# Altium schematic symbol library MFE Sch Library.SchLib: 56 symbols
Pins are listed as number, name and electrical type; pins without a type are passive.

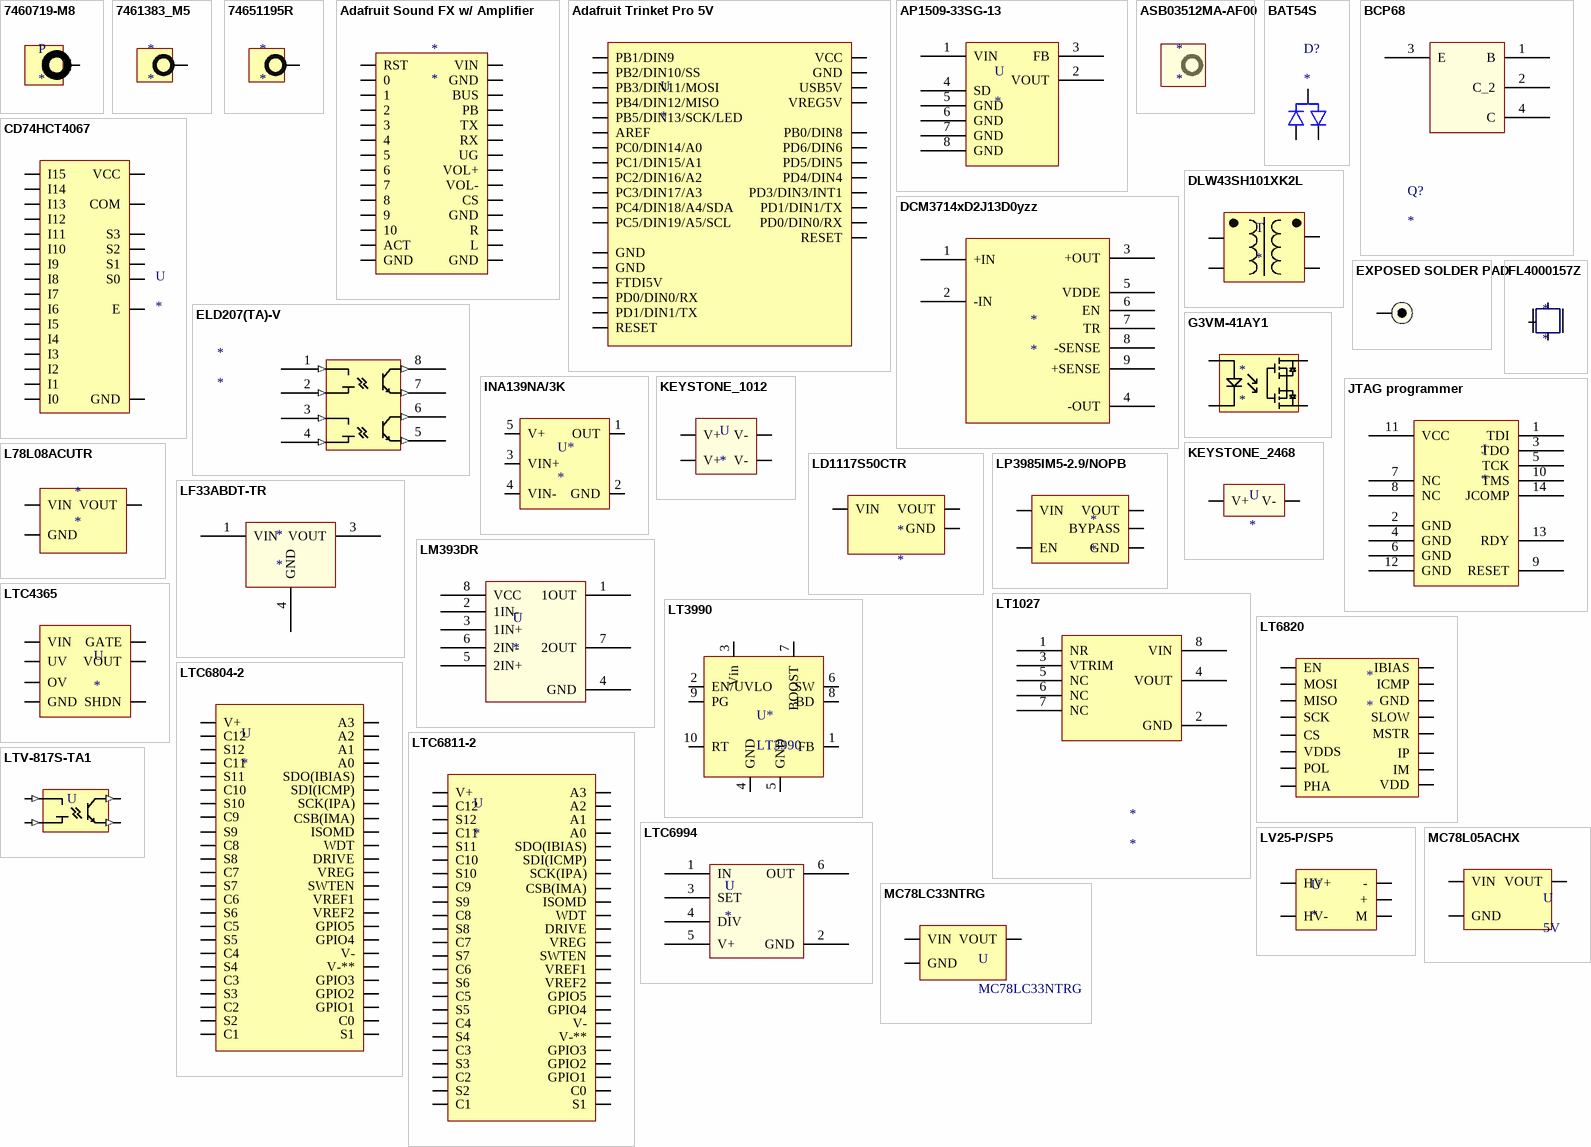
[diagram p0: symbols 7460719-M8 to MC78LC33NTRG]

## 7460719-M8
designator P
screw terminal
pins: 1

## 7461383_M5
designator *
pins: 1 TERMINAL

## 74651195R
designator *
screw terminal
pins: 1 TERMINAL

## Adafruit Sound FX w/ Amplifier
designator *
sound board controlled via UART, 16MB storage
pins: 1 RST, 2 0, 3 1, 4 2, 5 3, 6 4, 7 5, 8 6, 9 7, 10 8, 11 9, 12 10, 13 ACT, 14 GND, 15 GND, 16 L, 17 R, 18 GND, 19 CS, 20 VOL-, 21 VOL+, 22 UG, 23 RX, 24 TX, 25 PB, 26 BUS, 27 GND, 28 VIN

## Adafruit Trinket Pro 5V
designator U
ATMega based microcontroller, smaller Arduino
pins: 1 PB1/DIN9, 2 PB2/DIN10/SS, 3 PB3/DIN11/MOSI, 4 PB4/DIN12/MISO, 5 PB5/DIN13/SCK/LED, 6 AREF, 7 PC0/DIN14/A0, 8 PC1/DIN15/A1, 9 PC2/DIN16/A2, 10 PC3/DIN17/A3, 11 PC4/DIN18/A4/SDA, 12 PC5/DIN19/A5/SCL, 13 GND, 14 GND, 15 FTDI5V, 16 PD0/DIN0/RX, 17 PD1/DIN1/TX, 18 RESET, 19 RESET, 20 PD0/DIN0/RX, 21 PD1/DIN1/TX, 22 PD3/DIN3/INT1, 23 PD4/DIN4, 24 PD5/DIN5, 25 PD6/DIN6, 26 PB0/DIN8, 27 VREG5V, 28 USB5V, 29 GND, 30 VCC

## AP1509-33SG-13
designator U
Fixed 3v3 switching regulator 8SOIC
footprint SOIC127P600-8N (SOIC, 8-Leads, Body 4.9x3.9mm, Pitch 1.27mm, IPC Medium Density)
footprint SOIC127P600-8N (SOIC, 8-Leads, Body 4.9x3.9mm, Pitch 1.27mm, IPC Medium Density)
pins: 1 VIN, 2 VOUT, 3 FB, 4 SD, 5 GND, 6 GND, 7 GND, 8 GND

## ASB03512MA-AF00
designator *
footprint ASB03512MA (12V DCDC Fan)

## BAT54S
designator D?
MCU clamping diodes
footprint SOT95P250-3L (SOT23, 3-Leads, Body 2.9x1.3mm, Pitch 0.95mm, Lead Span 2.3mm, IPC High Density)
pins: 1, 2, 3

## BCP68
designator Q?
1V0 source for MPC5643L
footprint SOT223-4L (SOT223, 4-Leads, Body 6.5x3.5mm, Pitch 2.3mm, Lead Span 7mm, IPC High Density)
pins: 1 B, 2 C_2, 3 E, 4 C

## CD74HCT4067
designator U
16 input mux
pins: 1 COM, 2 I7, 3 I6, 4 I5, 5 I4, 6 I3, 7 I2, 8 I1, 9 I0, 10 S0, 11 S1, 12 GND, 13 S2, 14 S3, 15 E, 16 I15, 17 I14, 18 I13, 19 I12, 20 I11, 21 I10, 22 I9, 23 I8, 24 VCC

## DCM3714xD2J13D0yzz
designator *
300V-12V DCDC 320W
pins: 1 +IN, 2 -IN, 3 +OUT, 4 -OUT, 5 VDDE, 6 EN, 7 TR, 8 -SENSE, 9 +SENSE

## DLW43SH101XK2L
designator T
100uH CMC
pins: 1, 2, 3, 4

## ELD207(TA)-V
designator *
2 channel optoisolator, 10mA 100% CTR
footprint SOIC127P600-8CN (SOIC, 8-Leads, Body 4.9x3.9mm, Pitch 1.27mm, IPC Medium Density)
pins: 1 OPTO1_IN (in), 2 OPTO1_OUT (in), 3 OPTO2_IN (in), 4 OPTO2_OUT (in), 5 OPTO2_E (out), 6 OPTO2_C (out), 7 OPTO1_E (out), 8 OPTO1_C (out)

## EXPOSED SOLDER PAD
designator *  (value not drawn)
testing point
footprint TEST PAD
pins: 1 PAD

## FL4000157Z
designator *
40MHz crystal
pins: 1 XTAL, 2 GND, 3 XTAL

## G3VM-41AY1
designator *
pins: 1, 2, 3, 4

## INA139NA/3K
designator U*
current monitor, used with 0.01 ohm shunt resistor
footprint SOT23-5N (SOT23, 5-Leads, Body 2.90x2.80mm, Pitch 0.95mm, IPC Medium Density)
pins: 1 OUT, 2 GND, 3 VIN+, 4 VIN-, 5 V+

## JTAG programmer
designator J
footprint MHDR2X7
pins: 1 TDI, 2 GND, 3 TDO, 4 GND, 5 TCK, 6 GND, 7 NC, 8 NC, 9 RESET, 10 TMS, 11 VCC, 12 GND, 13 RDY, 14 JCOMP

## KEYSTONE_1012
designator U
1 CELL BATTERY HOLDER
footprint Keystone 1012 (Dual AA battery holder)
pins: 1 V+, 2 V-, 3 V+, 4 V-

## KEYSTONE_2468
designator U
2 CELL BATTERY HOLDER
footprint KEYSTONE_2468
pins: 1 V+, 2 V-

## L78L08ACUTR
designator *
8V, 100mA linear regulator
footprint SOT89 (SOT-89; Body 4.6 x 4.25 mm, inc. leads (LxW max))
pins: 1 VOUT, 2 GND, 3 VIN

## LD1117S50CTR
designator *
pins: 1 GND, 2 VOUT, 3 VIN

## LF33ABDT-TR
designator *
3v3 500ma linear regulator
footprint TO545P1890-3_4L (D3-PAK, 4-Leads, Body 13.9x16mm, Pitch 5.45mm, Lead Span 18.9mm, IPC High Density)
pins: 1 VIN, 3 VOUT, 4 GND

## LM393DR
designator U
dual differential comparator
footprint SOIC127P600-8AN (SOIC, 8-Leads, Body 4.9x3.9mm, Pitch 1.27mm, IPC Medium Density)
pins: 1 1OUT, 2 1IN-, 3 1IN+, 4 GND, 5 2IN+, 6 2IN-, 7 2OUT, 8 VCC

## LP3985IM5-2.9/NOPB
designator *
2.9V voltage regulator for DCDC trim
footprint SOT23-5AM (SOT23, 5-Leads, Body 2.9x1.7mm, Pitch 0.95mm, Lead Span 2.8mm, IPC Low Density)
pins: 1 VIN, 2 GND, 3 EN, 4 BYPASS, 5 VOUT

## LT1027
designator *
5V ADC reference
footprint SOIC127P600-8AL (SOIC, 8-Leads, Body 4.9x3.9mm, Pitch 1.27mm, IPC High Density)
pins: 1 NR, 2 GND, 3 VTRIM, 4 VOUT, 5 NC, 6 NC, 7 NC, 8 VIN

## LT3990
designator U*
LT3990 62V, 350mA Step-Down Regulator; Mfr 1: Linear Technologies; Mfr 1 PN: LT3990
pins: 1 FB, 2 EN/UVLO, 3 Vin, 4 GND, 5 GND, 6 SW, 7 BOOST, 8 BD, 9 PG, 10 RT

## LT6820
designator *
isoSPI for BMS
pins: 1 EN, 2 MOSI, 3 MISO, 4 SCK, 5 CS, 6 VDDS, 7 POL, 8 PHA, 9 VDD, 10 IM, 11 IP, 12 MSTR, 13 SLOW, 14 GND, 15 ICMP, 16 IBIAS

## LTC4365
designator U
Overvoltage, undervoltage, reverse polarity protection
footprint TSOP65P490-8AM (TSOP, 8-Leads, Body 3x3mm, Pitch 0.65mm, IPC Low Density)
pins: 1 VIN, 2 UV, 3 OV, 4 GND, 5 SHDN, 6 VOUT, 8 GATE

## LTC6804-2
designator U
12-cell battery management chip
footprint TSSOP50P810-48AL (TSSOP, 48-Leads, Body 12.5x6.1mm, Pitch 0.5mm, IPC High Density)
pins: 1 V+, 2 C12, 3 S12, 4 C11, 5 S11, 6 C10, 7 S10, 8 C9, 9 S9, 10 C8, 11 S8, 12 C7, 13 S7, 14 C6, 15 S6, 16 C5, 17 S5, 18 C4, 19 S4, 20 C3, 21 S3, 22 C2, 23 S2, 24 C1, 25 S1, 26 C0, 27 GPIO1, 28 GPIO2, 29 GPIO3, 30 V-**, 31 V-, 32 GPIO4, 33 GPIO5, 34 VREF2, 35 VREF1, 36 SWTEN, 37 VREG, 38 DRIVE, 39 WDT, 40 ISOMD, 41 CSB(IMA), 42 SCK(IPA), 43 SDI(ICMP), 44 SDO(IBIAS), 45 A0, 46 A1, 47 A2, 48 A3

## LTC6811-2
designator U
12-cell battery management chip
footprint TSSOP50P810-48AL (TSSOP, 48-Leads, Body 12.5x6.1mm, Pitch 0.5mm, IPC High Density)
pins: 1 V+, 2 C12, 3 S12, 4 C11, 5 S11, 6 C10, 7 S10, 8 C9, 9 S9, 10 C8, 11 S8, 12 C7, 13 S7, 14 C6, 15 S6, 16 C5, 17 S5, 18 C4, 19 S4, 20 C3, 21 S3, 22 C2, 23 S2, 24 C1, 25 S1, 26 C0, 27 GPIO1, 28 GPIO2, 29 GPIO3, 30 V-**, 31 V-, 32 GPIO4, 33 GPIO5, 34 VREF2, 35 VREF1, 36 SWTEN, 37 VREG, 38 DRIVE, 39 WDT, 40 ISOMD, 41 CSB(IMA), 42 SCK(IPA), 43 SDI(ICMP), 44 SDO(IBIAS), 45 A0, 46 A1, 47 A2, 48 A3

## LTC6994
designator U
programmable delay line
footprint SOT26A-6L (SOT23, 6-Leads, Body 2.9x1.7mm, Pitch 0.95mm, Lead Span 2.8mm, IPC High Density)
pins: 1 IN, 2 GND, 3 SET, 4 DIV, 5 V+, 6 OUT

## LTV-817S-TA1
designator U  (value not drawn)
pins: 1 OPTO1_IN (in), 2 OPTO1_OUT (in), 3 (out), 4 OPTO1_C (out)

## LV25-P/SP5
designator U
HV voltage transducer
footprint LV 25-P/SP5 (hv sensor)
pins: 1 HV-, 2 HV+, 3 M, 4 +, 5 -

## MC78L05ACHX
designator U, comment 5V
5V, 100mA linear regulator
footprint SOT89M (SOT89, 3-Leads, Body 4.5x2.4 mm, Pitch 1.5mm, Lead Span 4.1mm, IPC Low Density)
pins: 1 VOUT, 2 GND, 3 VIN

## MC78LC33NTRG
designator U
5V, 80mA linear regulator
footprint SOT23-5BL (SOT23, 5-Leads, Body 2.9x1.6mm, Pitch 0.95mm, Lead Span 2.8mm, IPC High Density)
pins: 1 GND, 2 VIN, 3 VOUT

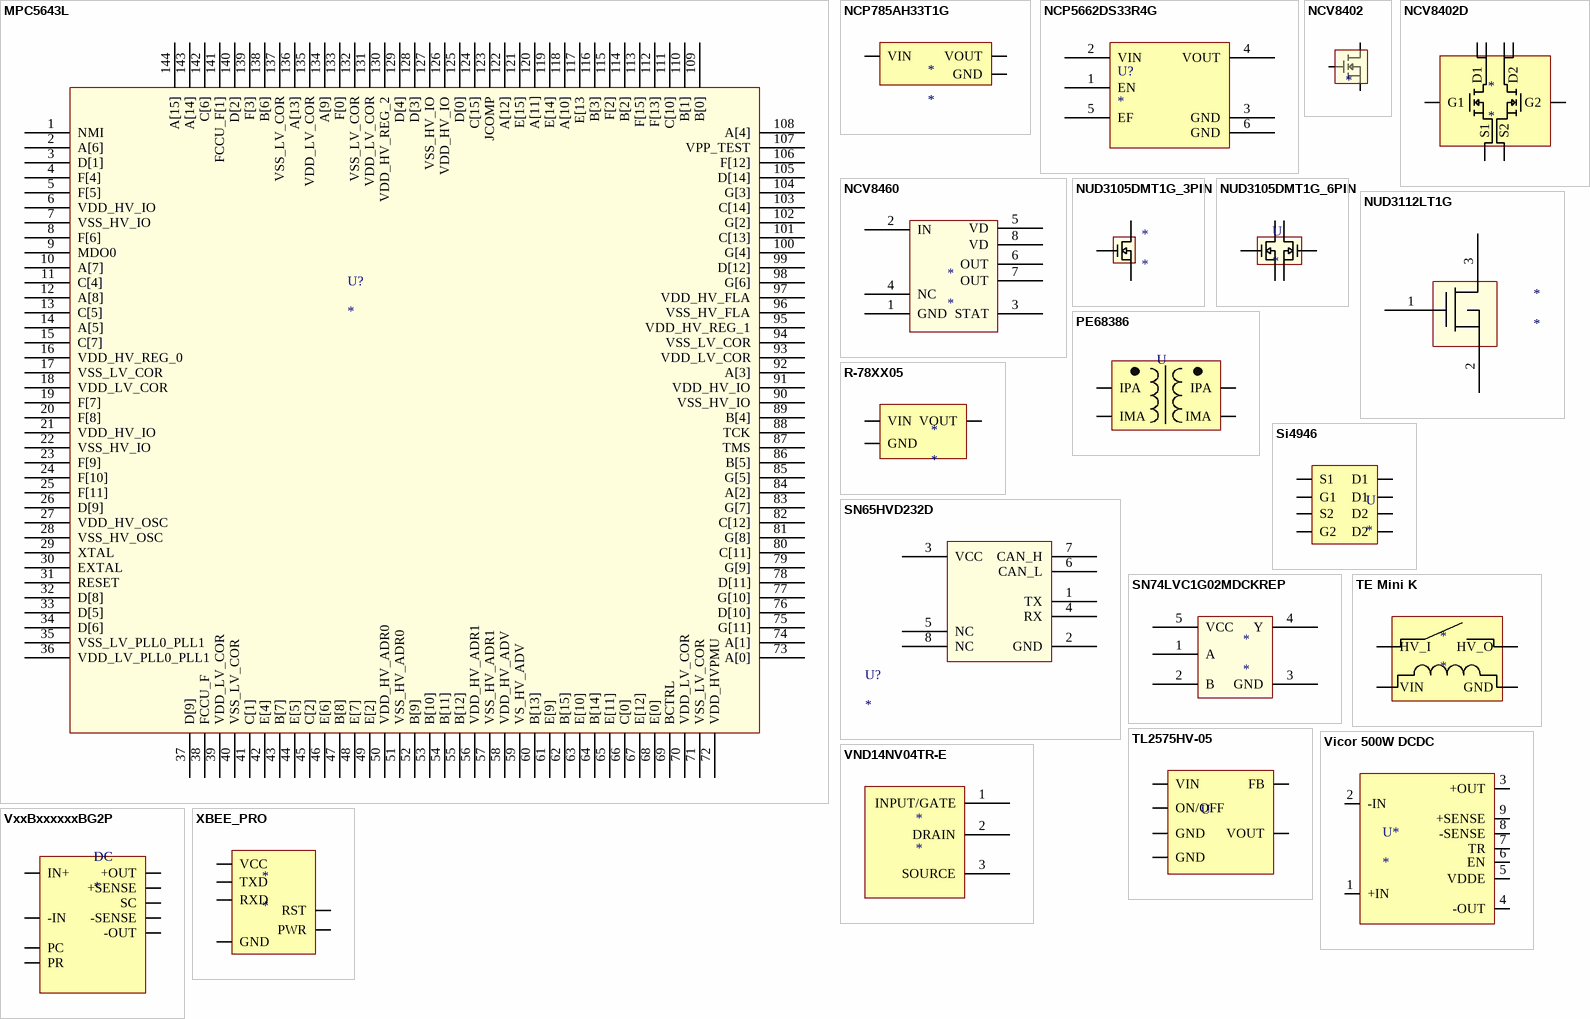
[diagram p1: symbols MPC5643L to XBEE_PRO]

## MPC5643L
designator U?
main CPU for VC and BMS
footprint SQFP20X20-144 (QFP; 144 Leads; Body 20 x 20 mm; Pitch 0.5 mm)
pins: 1 NMI, 2 A[6], 3 D[1], 4 F[4], 5 F[5], 6 VDD_HV_IO, 7 VSS_HV_IO, 8 F[6], 9 MDO0, 10 A[7], 11 C[4], 12 A[8], 13 C[5], 14 A[5], 15 C[7], 16 VDD_HV_REG_0, 17 VSS_LV_COR, 18 VDD_LV_COR, 19 F[7], 20 F[8], 21 VDD_HV_IO, 22 VSS_HV_IO, 23 F[9], 24 F[10], 25 F[11], 26 D[9], 27 VDD_HV_OSC, 28 VSS_HV_OSC, 29 XTAL, 30 EXTAL, 31 RESET, 32 D[8], 33 D[5], 34 D[6], 35 VSS_LV_PLL0_PLL1, 36 VDD_LV_PLL0_PLL1, 37 D[9], 38 FCCU_F, 39 VDD_LV_COR, 40 VSS_LV_COR, 41 C[1], 42 E[4], 43 B[7], 44 E[5], 45 C[2], 46 E[6], 47 B[8], 48 E[7], 49 E[2], 50 VDD_HV_ADR0, 51 VSS_HV_ADR0, 52 B[9], 53 B[10], 54 B[11], 55 B[12], 56 VDD_HV_ADR1, 57 VSS_HV_ADR1, 58 VDD_HV_ADV, 59 VS_HV_ADV, 60 B[13], 61 E[9], 62 B[15], 63 E[10], 64 B[14], 65 E[11], 66 C[0], 67 E[12], 68 E[0], 69 BCTRL, 70 VDD_LV_COR, 71 VSS_LV_COR, 72 VDD_HVPMU, 73 A[0], 74 A[1], 75 G[11], 76 D[10], 77 G[10], 78 D[11], 79 G[9], 80 C[11], 81 G[8], 82 C[12], 83 G[7], 84 A[2], 85 G[5], 86 B[5], 87 TMS, 88 TCK, 89 B[4], 90 VSS_HV_IO, 91 VDD_HV_IO, 92 A[3], 93 VDD_LV_COR, 94 VSS_LV_COR, 95 VDD_HV_REG_1, 96 VSS_HV_FLA, 97 VDD_HV_FLA, 98 G[6], 99 D[12], 100 G[4], 101 C[13], 102 G[2], 103 C[14], 104 G[3], 105 D[14], 106 F[12], 107 VPP_TEST, 108 A[4], 109 B[0], 110 B[1], 111 C[10], 112 F[13], 113 F[15], 114 B[2], 115 F[2], 116 B[3], 117 E[13, 118 A[10], 119 E[14], 120 A[11], 121 E[15], 122 A[12], 123 JCOMP, 124 C[15], 125 D[0], 126 VDD_HV_IO, 127 VSS_HV_IO, 128 D[3], 129 D[4], 130 VDD_HV_REG_2, 131 VDD_LV_COR, 132 VSS_LV_COR, 133 F[0], 134 A[9], 135 VDD_LV_COR, 136 A[13], 137 VSS_LV_COR, 138 B[6], 139 F[3], 140 D[2], 141 FCCU_F[1], 142 C[6], 143 A[14], 144 A[15]

## NCP785AH33T1G
designator *
300V to 3.3V linear regulator, 10mA
footprint SOT89L (SOT89, 3-Leads, Body 4.5x2.4 mm, Pitch 1.5mm, Lead Span 4.1mm, IPC High Density)
pins: 1 VIN, 2 GND, 3 VOUT

## NCP5662DS33R4G
designator U?
3V3 2A regulator
footprint TO170P1520-6M (D2-PAK, 6-Leads, Body 9x10.2mm, Pitch 1.7mm, Lead Span 15.2mm, IPC Low Density)
pins: 1 EN, 2 VIN, 3 GND, 4 VOUT, 5 EF, 6 GND

## NCV8402
designator ?
LOW SIDE DRIVER, 42V, 2.37A
footprint SOT223-4M (SOT223, 4-Leads, Body 6.5x3.5mm, Pitch 2.3mm, Lead Span 7mm, IPC Low Density)
pins: 1 GATE, 3 SOURCE, 4 DRAIN

## NCV8402D
designator *
LOW SIDE DRIVER, 42V, 2A
pins: 1 S1, 2 G1, 3 S2, 4 G2, 5 DRAIN2, 6 D2, 7 D1, 8 D1

## NCV8460
designator *
Smart high side driver with circuit protection
footprint SOIC127P600-8AM (SOIC, 8-Leads, Body 4.9x3.9mm, Pitch 1.27mm, IPC Low Density)
pins: 1 GND, 2 IN, 3 STAT, 4 NC, 5 VD, 6 OUT, 7 OUT, 8 VD

## NUD3105DMT1G_3PIN
designator *
Inductive load driver, capable of 2.5W coils at 5V, NMOS
footprint SOT346-3AL (SOT346, 3-Leads, Body 2.9x1.5mm, Pitch 0.95mm, Lead Span 2.6mm, IPC High Density)
pins: 1 GATE, 2 SOURCE, 3 DRAIN

## NUD3105DMT1G_6PIN
designator U
inductive load driver, capable of 2.5W coils at 5V, NMOS
footprint SOT26A-6AL (SOT23, 6-Leads, Body 2.9x1.6mm, Pitch 0.95mm, Lead Span 2.5mm, IPC High Density)
pins: 1 SOURCE, 2 GATE, 3 DRAIN2, 4 SOURCE2, 5 GATE2, 6 DRAIN

## NUD3112LT1G
designator *
inductive load driver, capable of 6W on 12v coil, NMOS
footprint SOT346-3AL (SOT346, 3-Leads, Body 2.9x1.5mm, Pitch 0.95mm, Lead Span 2.6mm, IPC High Density)
pins: 1 GATE, 2 SOURCE, 3 DRAIN

## PE68386
designator U  (value not drawn)
1:1 isolation transformer
footprint PE68386 (1:1 isolation transformer)
pins: 1 IPA, 2 IMA, 3 IMA, 4 IPA

## R-78XX05
designator *
5V CLAMPER
pins: 1 VIN, 2 GND, 3 VOUT

## Si4946
designator U
Dual channel NMOS
footprint SOIC127P600-8N (SOIC, 8-Leads, Body 4.9x3.9mm, Pitch 1.27mm, IPC Medium Density)
pins: 1 S1, 2 G1, 3 S2, 4 G2, 5 D2, 6 D2, 7 D1, 8 D1

## SN65HVD232D
designator U?
TI CAN transceiver
footprint SOIC127P600-8AL (SOIC, 8-Leads, Body 4.9x3.9mm, Pitch 1.27mm, IPC High Density)
pins: 1 TX, 2 GND, 3 VCC, 4 RX, 5 NC, 6 CAN_L, 7 CAN_H, 8 NC

## SN74LVC1G02MDCKREP
designator *
NOR gate
footprint SOT353-5AL (SOT353, 5-Leads, Body 2x1.3mm, Pitch 0.65mm, Lead Span 2.1mm, IPC High Density)
pins: 1 A, 2 B, 3 GND, 4 Y, 5 VCC

## TE Mini K
designator *
HV relay used for precharge/discharge/DCDC
pins: 1 VIN, 2 GND, 5 HV_I, 7 HV_O

## TL2575HV-05
designator U  (value not drawn)
60Vin, fixed 5Vout, 1A switching regulator
footprint TO170P1520-6N (D2-PAK, 6-Leads, Body 9x10.2mm, Pitch 1.7mm, Lead Span 15.2mm, IPC Medium Density)
pins: 1 VIN, 2 VOUT, 3 GND, 4 FB, 5 ON/OFF, 6 GND

## Vicor 500W DCDC
designator U*
footprint VICOR_DCM
pins: 1 +IN, 2 -IN, 3 +OUT, 4 -OUT, 5 VDDE, 6 EN, 7 TR, 8 -SENSE, 9 +SENSE

## VND14NV04TR-E
designator *
inductive load driver, requires R on input and pull down, NMOS
pins: 1 INPUT/GATE, 2 DRAIN, 3 SOURCE

## VxxBxxxxxxBG2P
designator DC
Vicor 250W 12V DCDC MINI
pins: 1 IN+, 2 PC, 3 PR, 4 -IN, 5 -OUT, 6 -SENSE, 7 SC, 8 +SENSE, 9 +OUT

## XBEE_PRO
designator *
pins: 1 VCC, 2 TXD, 3 RXD, 5 RST, 10 GND, 13 PWR